# Altium schematic symbol library ksz8567rtxv-vao.SchLib: 1 symbol
Pins are listed as number, name and electrical type; pins without a type are passive.

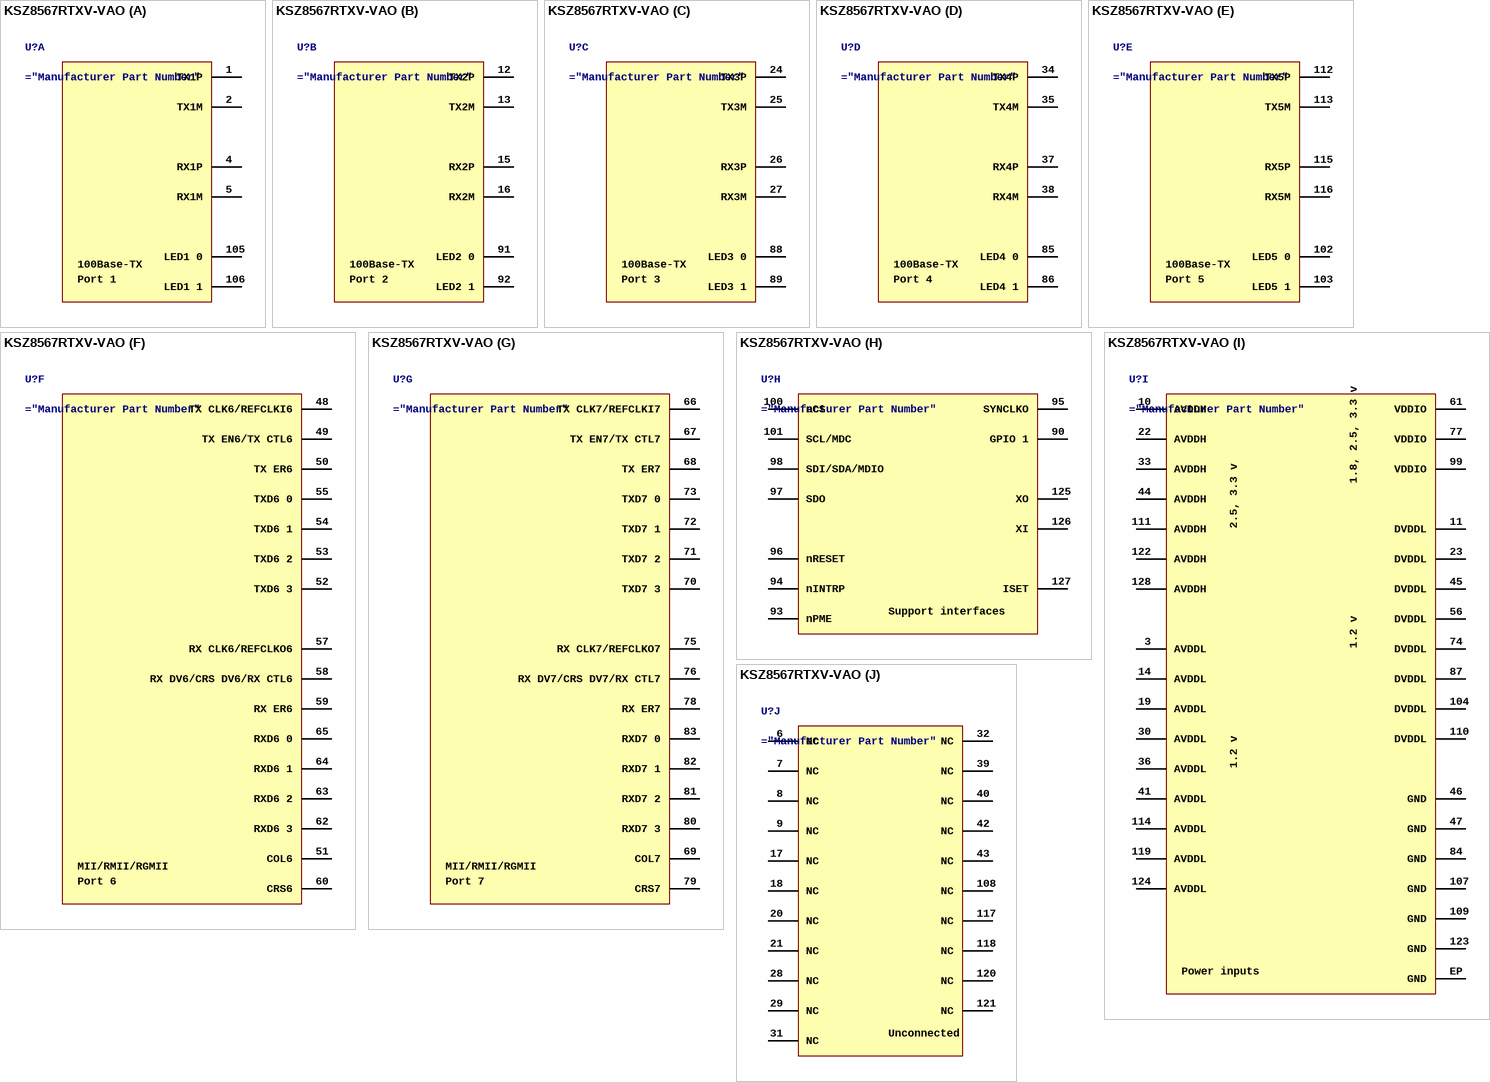
[diagram p0: symbol KSZ8567RTXV-VAO]

## KSZ8567RTXV-VAO
designator U?
Automotive Ethernet Switch 7 Port 10Mbps/100Mbps 128-Pin TQFP EP Tray
part A pins: 1 TX1P, 2 TX1M, 4 RX1P, 5 RX1M, 105 LED1 0, 106 LED1 1
part B pins: 12 TX2P, 13 TX2M, 15 RX2P, 16 RX2M, 91 LED2 0, 92 LED2 1
part C pins: 24 TX3P, 25 TX3M, 26 RX3P, 27 RX3M, 88 LED3 0, 89 LED3 1
part D pins: 34 TX4P, 35 TX4M, 37 RX4P, 38 RX4M, 85 LED4 0, 86 LED4 1
part E pins: 102 LED5 0, 103 LED5 1, 112 TX5P, 113 TX5M, 115 RX5P, 116 RX5M
part F pins: 48 TX CLK6/REFCLKI6, 49 TX EN6/TX CTL6, 50 TX ER6, 51 COL6, 52 TXD6 3, 53 TXD6 2, 54 TXD6 1, 55 TXD6 0, 57 RX CLK6/REFCLKO6, 58 RX DV6/CRS DV6/RX CTL6, 59 RX ER6, 60 CRS6, 62 RXD6 3, 63 RXD6 2, 64 RXD6 1, 65 RXD6 0
part G pins: 66 TX CLK7/REFCLKI7, 67 TX EN7/TX CTL7, 68 TX ER7, 69 COL7, 70 TXD7 3, 71 TXD7 2, 72 TXD7 1, 73 TXD7 0, 75 RX CLK7/REFCLKO7, 76 RX DV7/CRS DV7/RX CTL7, 78 RX ER7, 79 CRS7, 80 RXD7 3, 81 RXD7 2, 82 RXD7 1, 83 RXD7 0
part H pins: 90 GPIO 1, 93 nPME, 94 nINTRP, 95 SYNCLKO, 96 nRESET, 97 SDO, 98 SDI/SDA/MDIO, 100 nCS, 101 SCL/MDC, 125 XO, 126 XI, 127 ISET
part I pins: 3 AVDDL, 10 AVDDH, 11 DVDDL, 14 AVDDL, 19 AVDDL, 22 AVDDH, 23 DVDDL, 30 AVDDL, 33 AVDDH, 36 AVDDL, 41 AVDDL, 44 AVDDH, 45 DVDDL, 46 GND, 47 GND, 56 DVDDL, 61 VDDIO, 74 DVDDL, 77 VDDIO, 84 GND, 87 DVDDL, 99 VDDIO, 104 DVDDL, 107 GND, 109 GND, 110 DVDDL, 111 AVDDH, 114 AVDDL, 119 AVDDL, 122 AVDDH, 123 GND, 124 AVDDL, 128 AVDDH, EP GND
part J pins: 6 NC, 7 NC, 8 NC, 9 NC, 17 NC, 18 NC, 20 NC, 21 NC, 28 NC, 29 NC, 31 NC, 32 NC, 39 NC, 40 NC, 42 NC, 43 NC, 108 NC, 117 NC, 118 NC, 120 NC, 121 NC
part A text: 100Base-TX; Port 1
part B text: 100Base-TX; Port 2
part C text: 100Base-TX; Port 3
part D text: 100Base-TX; Port 4
part E text: 100Base-TX; Port 5
part F text: MII/RMII/RGMII; Port 6
part G text: MII/RMII/RGMII; Port 7
part H text: Support interfaces
part I text: 1.8, 2.5, 3.3 v; 2.5, 3.3 v; 1.2 v; Power inputs
part J text: Unconnected